# Altium footprint library LPCC-148.PcbLib: 1 footprints
Each footprint in its own frame and in the unit in brackets; x right, y up, seen from the top. Pads: shape width x height; smd on the part's side, far side on the other; paste and mask are expansions set on the pad; w line width, h text height; cw(c..) or ccw(c..) is an arc to the next point about the centre after c.
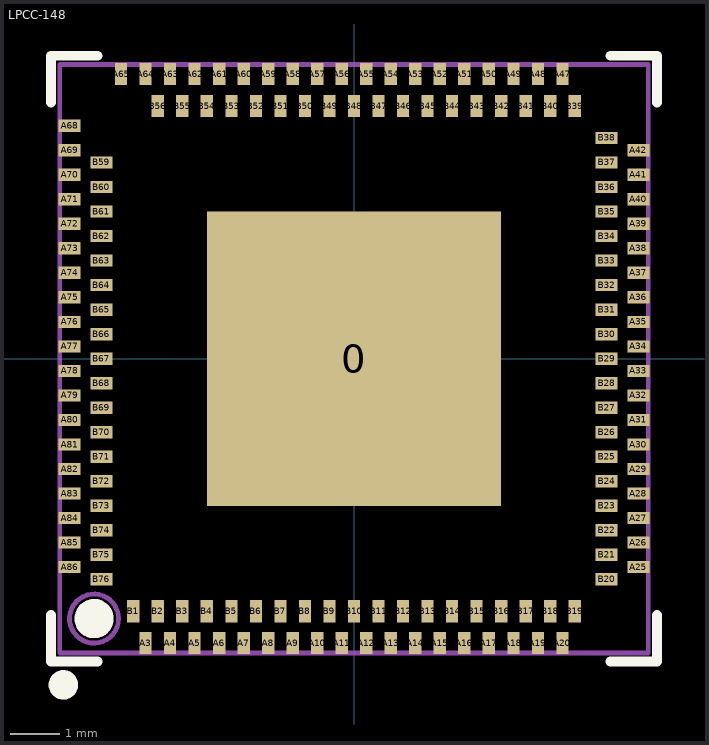
[diagram p0: the footprint, top view; thin cyan lines are the x and y axes]

## LPCC-148 [mm]
pads (149):
  rect 6x6 smd: 0(0,0)
  rect 0.25x0.45 smd mask+0.051: A3(-4.25,-5.8) A4(-3.75,-5.8) A5(-3.25,-5.8) A6(-2.75,-5.8) A7(-2.25,-5.8) A8(-1.75,-5.8) A9(-1.25,-5.8) A10(-0.75,-5.8) A11(-0.25,-5.8) A12(0.25,-5.8) A13(0.75,-5.8) A14(1.25,-5.8) A15(1.75,-5.8) A16(2.25,-5.8) A17(2.75,-5.8) A18(3.25,-5.8) A19(3.75,-5.8) A20(4.25,-5.8) A47(4.25,5.8) A48(3.75,5.8) A49(3.25,5.8) A50(2.75,5.8) A51(2.25,5.8) A52(1.75,5.8) A53(1.25,5.8) A54(0.75,5.8) A55(0.25,5.8) A56(-0.25,5.8) A57(-0.75,5.8) A58(-1.25,5.8) A59(-1.75,5.8) A60(-2.25,5.8) A61(-2.75,5.8) A62(-3.25,5.8) A63(-3.75,5.8) A64(-4.25,5.8) A65(-4.75,5.8) B1(-4.5,-5.15) B2(-4,-5.15) B3(-3.5,-5.15) B4(-3,-5.15) B5(-2.5,-5.15) B6(-2,-5.15) B7(-1.5,-5.15) B8(-1,-5.15) B9(-0.5,-5.15) B10(0,-5.15) B11(0.5,-5.15) B12(1,-5.15) B13(1.5,-5.15) B14(2,-5.15) B15(2.5,-5.15) B16(3,-5.15) B17(3.5,-5.15) B18(4,-5.15) B19(4.5,-5.15) B39(4.5,5.15) B40(4,5.15) B41(3.5,5.15) B42(3,5.15) B43(2.5,5.15) B44(2,5.15) B45(1.5,5.15) B46(1,5.15) B47(0.5,5.15) B48(0,5.15) B49(-0.5,5.15) B50(-1,5.15) B51(-1.5,5.15) B52(-2,5.15) B53(-2.5,5.15) B54(-3,5.15) B55(-3.5,5.15) B56(-4,5.15)
  rect 0.45x0.25 smd mask+0.051: A25(5.8,-4.25) A26(5.8,-3.75) A27(5.8,-3.25) A28(5.8,-2.75) A29(5.8,-2.25) A30(5.8,-1.75) A31(5.8,-1.25) A32(5.8,-0.75) A33(5.8,-0.25) A34(5.8,0.25) A35(5.8,0.75) A36(5.8,1.25) A37(5.8,1.75) A38(5.8,2.25) A39(5.8,2.75) A40(5.8,3.25) A41(5.8,3.75) A42(5.8,4.25) A68(-5.8,4.75) A69(-5.8,4.25) A70(-5.8,3.75) A71(-5.8,3.25) A72(-5.8,2.75) A73(-5.8,2.25) A74(-5.8,1.75) A75(-5.8,1.25) A76(-5.8,0.75) A77(-5.8,0.25) A78(-5.8,-0.25) A79(-5.8,-0.75) A80(-5.8,-1.25) A81(-5.8,-1.75) A82(-5.8,-2.25) A83(-5.8,-2.75) A84(-5.8,-3.25) A85(-5.8,-3.75) A86(-5.8,-4.25) B20(5.15,-4.5) B21(5.15,-4) B22(5.15,-3.5) B23(5.15,-3) B24(5.15,-2.5) B25(5.15,-2) B26(5.15,-1.5) B27(5.15,-1) B28(5.15,-0.5) B29(5.15,0) B30(5.15,0.5) B31(5.15,1) B32(5.15,1.5) B33(5.15,2) B34(5.15,2.5) B35(5.15,3) B36(5.15,3.5) B37(5.15,4) B38(5.15,4.5) B59(-5.15,4) B60(-5.15,3.5) B61(-5.15,3) B62(-5.15,2.5) B63(-5.15,2) B64(-5.15,1.5) B65(-5.15,1) B66(-5.15,0.5) B67(-5.15,0) B68(-5.15,-0.5) B69(-5.15,-1) B70(-5.15,-1.5) B71(-5.15,-2) B72(-5.15,-2.5) B73(-5.15,-3) B74(-5.15,-3.5) B75(-5.15,-4) B76(-5.15,-4.5)
Top Overlay:
  circle w0.3: c-5.925,-6.65 r0.15
  circle w0.4: c-5.3,-5.3 r0.2
  lines w0.2: -6.175,-5.225 -6.175,-6.175 -5.225,-6.175 ; -6.175,5.225 -6.175,6.175 -5.225,6.175 ; 5.225,-6.175 6.175,-6.175 6.175,-5.225 ; 5.225,6.175 6.175,6.175 6.175,5.225
Mechanical 13:
  circle w0.1: c-5.3,-5.3 r0.5
  lines w0.1: -6,-6 -6,6 6,6 6,-6 -6,-6